# Altium schematic symbol library Buck_Boost_Converter.SchLib: 1 symbol
Pins are listed as number, name and electrical type; pins without a type are passive.

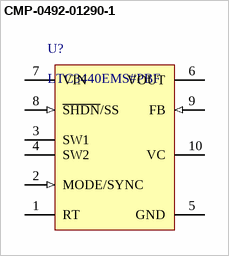
[diagram p0: symbol CMP-0492-01290-1]

## CMP-0492-01290-1
designator U?, comment LTC3440EMS#PBF
Micropower Synchronous Buck-Boost DC/DC Converter, 10-pin SOP (MS-10), -40 to 85 degC, Pb-Free; Manufacturer: Linear Technology; Frequency Sync Range: 300kHz - 2MHz; Number of Outputs: 1; DatasheetVersion: Rev. B; PackageVersion: Rev. E, 06/2010; ComponentLink2Description: Datasheet; ComponentLink1URL: http://www.linear.com/; ComponentLink3URL: http://cds.linear.com/docs/en/packaging/05081661_F_MS.pdf; PackageDescription: 10-Pin Plastic MSOP, Body 3 x 3 mm, Pitch 0.5 mm; ComponentLink1Description: Manufacturer URL; Mounting Technology: Surface Mount; RoHS: TRUE; ComponentLink3Description: Package Specification; ComponentLink2URL: http://cds.linear.com/docs/en/datasheet/3440fb.pdf; PartNumber: LTC3440EMS#PBF; PackageReference: MS-10
footprint LT-MS-10_N (SOP, 10-Leads, Body 3.1x3.1mm, Pitch 0.5mm, IPC Medium Density)
footprint LT-MS-10_L (SOP, 10-Leads, Body 3.1x3.1mm, Pitch 0.5mm, IPC High Density)
footprint LT-MS-10_M (SOP, 10-Leads, Body 3.1x3.1mm, Pitch 0.5mm, IPC Low Density)
pins: 1 RT "Timing Resistor to Program the Oscillator Frequency. The programming frequency range is 300kHz to 2MHz.", 2 MODE/SYNC (in) "MODE/SYNC = External CLK : Synchronization of the internal oscillator. A clock frequency of twice the desired switching frequency and with a pulse width between 100ns and 2us is applied. The oscillator free running frequency (See Datasheet)", 3 SW1 "Switch Pin Where the Internal Switches A and B are Connected. Connect inductor from SW1 to SW2. An optional Schottky diode can be connected from SW1 to ground. Minimize trace length to keep EMI down.", 4 SW2 "Switch Pin Where the Internal Switches C and D are Connected. For applications with output volt-ages over 4.3V, a Schottky diode is required from SW2 to VOUT to ensure the SW pin does not exhibit excess voltage.", 5 GND (power) "Signal and Power Ground for the IC.", 6 VOUT (power) "Output of the Synchronous Rectifier. A filtercapacitor is placed from VOUT to GND.", 7 VIN (power) "Input Supply Pin. Internal VCC for the IC. A ceramic bypass capacitor as close to the VIN pin and GND (Pin 5) is required.", 8 ~{SHDN}/SS (in) "Combined Soft-Start and Shutdown. Grounding this pin shuts down the IC. Tie to >1.5V to enable the IC and > 2.5V to ensure the error amp is not clamped from soft-start. An RC from the shutdown command signal to this pin will (See Datasheet)", 9 FB (in) "Feedback Pin. Connect resistor divider tap here. The output voltage can be adjusted from 2.5V to 5.5V. The feedback reference voltage is typically 1.22V.", 10 VC "Error Amp Output. A frequency compensation network is connected from this pin to the FB pin to compensate the loop. See the section “Compensating the Feedback Loop” for guidelines."